# Altium schematic symbol library Library.SchLib: 1 symbol
Pins are listed as number, name and electrical type; pins without a type are passive.

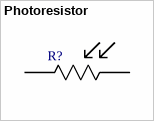
[diagram p0: symbol Photoresistor]

## Photoresistor
designator R?
No Description Available
footprint 5mm Photoresistor
pins: 1, 2